# Altium footprint library Wireless power.PcbLib: 7 footprints
Each footprint in its own frame and in the unit in brackets; x right, y up, seen from the top. Pads: shape width x height; smd on the part's side, far side on the other; paste and mask are expansions set on the pad; w line width, h text height; cw(c..) or ccw(c..) is an arc to the next point about the centre after c.
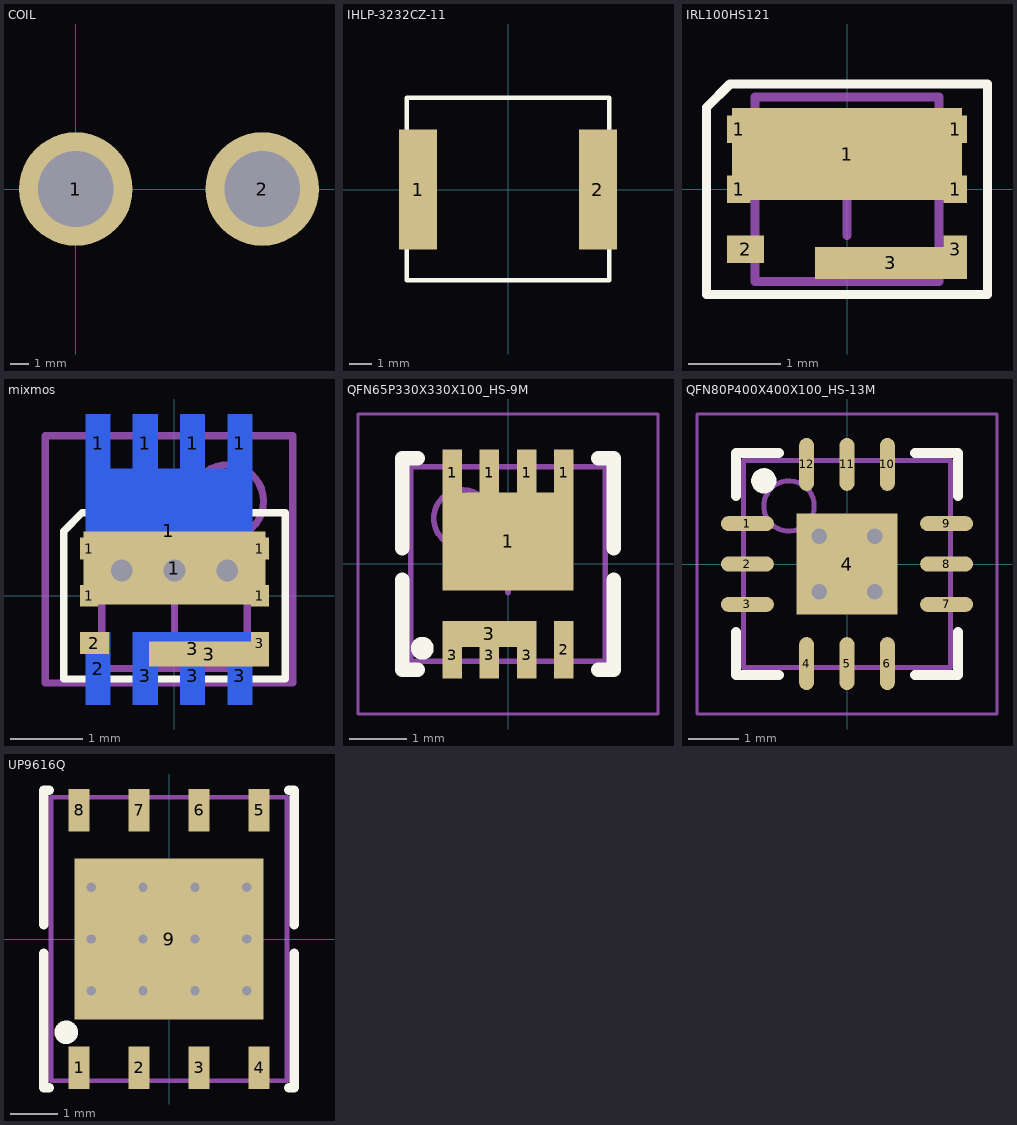
[diagram p0: the footprints below, top view; thin cyan lines are the x and y axes]

## COIL [mm]
pads (2):
  round 6 hole 4: 1(0,0) 2(9.85,0)

## IHLP-3232CZ-11 [mm] "Inductor"
height 3
pads (2):
  rect 1.7x5.334 smd: 1(-4,0) 2(4,0)
Top Overlay:
  lines w0.2: -4.5,-4.025 -4.5,4.075 4.5,4.075 4.5,-4.025 -4.5,-4.025
3D body: height 2.84, standoff -0.05, extent -4.3,-4.044 4.3,4.15

## IRL100HS121 [mm] "PQFN, 8-Leads, Body 2.00x2.00mm, Pitch 0.65mm, Thermal Pad 1.70x2.05mm, IPC Low Density"
height 1
pads (8):
  rect 0.25x0.3 smd: 1(-1.175,0) 1(-1.175,0.65) 1(1.175,0) 1(1.175,0.65) 3(1.175,-0.65)
  rect 2.5x1 smd: 1(0,0.381)
  rect 0.4x0.3 smd: 2(-1.1,-0.65)
  rect 1.65x0.35 smd: 3(0.475,-0.8)
Top Overlay:
  lines w0.1: -1.524,-1.143 -1.524,0.889 -1.27,1.143 1.524,1.143 1.524,-1.143 -1.524,-1.143
Mechanical 13:
  lines w0.1: -1,-1 1,-1 1,1 -1,1 -1,-1
Mechanical 15:
  lines w0.1: -0.5,0 0.5,0 ; 0,-0.5 0,0.5

## mixmos [mm]
pads (18):
  rect 0.25x0.3 smd: 1(-1.175,0) 1(-1.175,0.65) 1(1.175,0) 1(1.175,0.65) 3(1.175,-0.65)
  rect 0.34x0.8 smd far side: 1(-1.05,2.1) 1(-0.4,2.1) 1(0.25,2.1) 1(0.9,2.1) 3(-0.4,-1.1) 3(0.25,-1.1) 3(0.9,-1.1)
  rect 2.29x1.71 smd far side: 1(-0.075,0.895)
  rect 2.5x1 smd: 1(0,0.381)
  rect 0.4x0.3 smd: 2(-1.1,-0.65)
  rect 0.34x1 smd far side: 2(-1.05,-1)
  rect 1.64x0.45 smd far side: 3(0.25,-0.725)
  rect 1.65x0.35 smd: 3(0.475,-0.8)
via 0.725,0.35 diameter 0.5 hole 0.3
via 0,0.35 diameter 0.5 hole 0.3
via -0.725,0.35 diameter 0.5 hole 0.3
Top Overlay:
  lines w0.1: -1.524,-1.143 -1.524,0.889 -1.27,1.143 1.524,1.143 1.524,-1.143 -1.524,-1.143
Bottom Overlay:
  circle w0.25: c1.4,-0.95 r0.125
  lines w0.254: -1.925,0.223 -1.925,-1.35 -1.652,-1.35 ; -1.925,0.777 -1.925,2.35 -1.652,2.35 ; 1.502,-1.35 1.775,-1.35 1.775,0.223 ; 1.502,2.35 1.775,2.35 1.775,0.777
Mechanical 13:
  circle w0.1: c0.725,1.3 r0.5
  lines w0.1: -1.775,-1.2 1.625,-1.2 1.625,2.2 -1.775,2.2 -1.775,-1.2 ; -1,-1 1,-1 1,1 -1,1 -1,-1
Mechanical 15:
  lines w0.1: -0.575,0.5 0.425,0.5 ; -0.5,0 0.5,0 ; -0.075,0 -0.075,1 ; 0,-0.5 0,0.5

## QFN65P330X330X100_HS-9M [mm] "QFN, 8-Leads, Body 3.30x3.30mm, Pitch 0.65mm, Thermal Pad 2.29x2.00mm, IPC Low Density"
height 1
pads (10):
  rect 0.34x0.8 smd: 1(-0.975,1.6) 1(-0.325,1.6) 1(0.325,1.6) 1(0.975,1.6) 3(-0.975,-1.6) 3(-0.325,-1.6) 3(0.325,-1.6)
  rect 2.29x1.71 smd: 1(0,0.395)
  rect 0.34x1 smd: 2(0.975,-1.5)
  rect 1.64x0.45 smd: 3(-0.325,-1.225)
Top Overlay:
  circle w0.2: c-1.5,-1.475 r0.1
  lines w0.254: -1.85,-0.277 -1.85,-1.85 -1.577,-1.85 ; -1.85,0.277 -1.85,1.85 -1.577,1.85 ; 1.577,-1.85 1.85,-1.85 1.85,-0.277 ; 1.577,1.85 1.85,1.85 1.85,0.277
Mechanical 13:
  circle w0.1: c-0.8,0.8 r0.5
  lines w0.1: -1.7,-1.7 1.7,-1.7 1.7,1.7 -1.7,1.7 -1.7,-1.7
Mechanical 15:
  lines w0.05: -2.625,-2.625 2.625,-2.625 2.625,2.625 -2.625,2.625 -2.625,-2.625
  lines w0.1: -0.5,0 0.5,0 ; 0,-0.5 0,0.5

## QFN80P400X400X100_HS-13M [mm] "QFN, 12-Leads, Body 4.00x4.00mm, Pitch 0.80mm, Thermal Pad 2.00x2.00mm, IPC Low Density"
height 1
pads (13):
  oval 1.05x0.3 smd: 1(-1.975,0.8) 2(-1.975,0) 3(-1.975,-0.8) 7(1.975,-0.8) 8(1.975,0) 9(1.975,0.8)
  oval 0.3x1.05 smd: 4(-0.8,-1.975) 5(0,-1.975) 6(0.8,-1.975) 10(0.8,1.975) 11(0,1.975) 12(-0.8,1.975)
  rect 2x2 smd: 4(0,0)
via -0.55,0.55 diameter 0.5 hole 0.3
via 0.55,0.55 diameter 0.5 hole 0.3
via -0.55,-0.55 diameter 0.5 hole 0.3
via 0.55,-0.55 diameter 0.5 hole 0.3
Top Overlay:
  circle w0.25: c-1.65,1.65 r0.125
  lines w0.2: -2.2,-1.35 -2.2,-2.2 -1.35,-2.2 ; -2.2,1.35 -2.2,2.2 -1.35,2.2 ; 1.35,-2.2 2.2,-2.2 2.2,-1.35 ; 1.35,2.2 2.2,2.2 2.2,1.35
Mechanical 13:
  circle w0.1: c-1.15,1.15 r0.5
  lines w0.1: -2.05,-2.05 -2.05,2.05 2.05,2.05 2.05,-2.05 -2.05,-2.05
Mechanical 15:
  lines w0.05: -2.975,-2.975 -2.975,2.975 2.975,2.975 2.975,-2.975 -2.975,-2.975
  lines w0.1: -0.5,0 0.5,0 ; 0,-0.5 0,0.5

## UP9616Q [mm] "QFN, 8-Leads, Body 5.00x6.00mm, Pitch 1.27mm/0.65mm, Thermal Pad 4.00x3.40mm, IPC Low Density"
height 1
pads (9):
  rect 0.45x0.9 smd: 1(-1.905,-2.725) 2(-0.635,-2.725) 3(0.635,-2.725) 4(1.905,-2.725) 5(1.905,2.725) 6(0.635,2.725) 7(-0.635,2.725) 8(-1.905,2.725)
  rect 4x3.4 smd: 9(0,0)
via 1.65,-1.1 diameter 0.5 hole 0.2
via 0.55,-1.1 diameter 0.5 hole 0.2
via -0.55,-1.1 diameter 0.5 hole 0.2
via -1.65,-1.1 diameter 0.5 hole 0.2
via 1.65,0 diameter 0.5 hole 0.2
via 0.55,0 diameter 0.5 hole 0.2
via -0.55,0 diameter 0.5 hole 0.2
via -1.65,0 diameter 0.5 hole 0.2
via 1.65,1.1 diameter 0.5 hole 0.2
via 0.55,1.1 diameter 0.5 hole 0.2
via -0.55,1.1 diameter 0.5 hole 0.2
via -1.65,1.1 diameter 0.5 hole 0.2
Top Overlay:
  circle w0.25: c-2.175,-1.975 r0.125
  lines w0.2: -2.65,-0.3 -2.65,-3.15 -2.53,-3.15 ; -2.65,0.3 -2.65,3.15 -2.53,3.15 ; 2.53,-3.15 2.65,-3.15 2.65,-0.3 ; 2.53,3.15 2.65,3.15 2.65,0.3
Mechanical 13:
  lines w0.1: -2.5,-3 2.5,-3 2.5,3 -2.5,3 -2.5,-3
Mechanical 15:
  lines w0.1: -0.5,0 0.5,0 ; 0,-0.5 0,0.5
3D body: height 1, standoff 0.01, extent -2.5,-3 2.5,3